# Altium integrated library Connectors.IntLib: 6 symbols
Pins are listed as number, name and electrical type; pins without a type are passive.

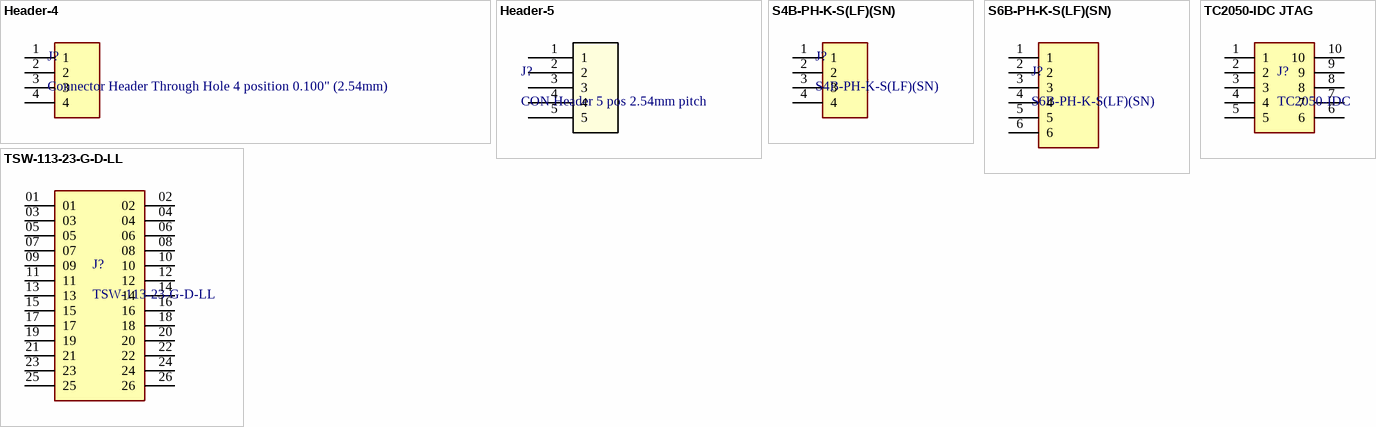
[diagram p0: symbols Header-4 to TSW-113-23-G-D-LL]

## Header-4
designator J?, comment Connector Header Through Hole 4 position 0.100" (2.54mm)
Raw: 1; Positions: 4; Manufacturer: *; Manufacturer Part Number: *; Pitch: 2.54mm
footprint 4_POS_2.54MM_HEADER
pins: 1, 2, 3, 4

## Header-5
designator J?, comment CON Header 5 pos 2.54mm pitch
Conn Unshrouded Header HDR 5 POS 2.54mm Solder ST Top Entry Thru-Hole; Manufacturer: Molex Connector Corporation; Manufacturer Part Number: 22284053; Raws: 1; Positions: 5; Type: DEV; Pitch: 2.54mm
footprint 5_POS_2_54MM
pins: 1, 2, 3, 4, 5

## S4B-PH-K-S(LF)(SN)
designator J?
Connector Header Through Hole, Right Angle 4 position 0.079" (2.00mm); Manufacturer: JST Sales America Inc.; Pitch: 2mm; Positions: 4; Raws: 1; Manufacturer Part Number: S4B-PH-K-S(LF)(SN)
footprint 4_POS_2MM
pins: 1, 2, 3, 4

## S6B-PH-K-S(LF)(SN)
designator J?
Connector Header Through Hole, Right Angle 6 position 0.079" (2.00mm); Manufacturer: JST Sales America Inc.; Pitch: 2mm; Positions: 6; Raws: 1; Manufacturer Part Number: S6B-PH-K-S(LF)(SN)
footprint 6_POS_2MM
pins: 1, 2, 3, 4, 5, 6

## TC2050-IDC JTAG
designator J?, comment TC2050-IDC  (no BOM)
MSP-FET430 Flash Emulation Tool Plug-Of-Nails™ Adapter Cable JTAG
footprint TAG-CONNECT_TC2050-IDC
pins: 1, 2, 3, 4, 5, 6, 7, 8, 9, 10

## TSW-113-23-G-D-LL
designator J?
Connector Header Through Hole 26 position 0.100" (2.54mm); Raws: 2; Positions: 26; Pitch: 2.54mm; Manufacturer: *; Manufacturer Part Number: *
footprint 26_POS_2.54MM_13X2
pins: 01, 02, 03, 04, 05, 06, 07, 08, 09, 10, 11, 12, 13, 14, 15, 16, 17, 18, 19, 20, 21, 22, 23, 24, 25, 26